# Altium schematic symbol library SCH - DRIVER - LED - TI TPS92692-Q1PWP.SchLib: 1 symbol
Pins are listed as number, name and electrical type; pins without a type are passive.

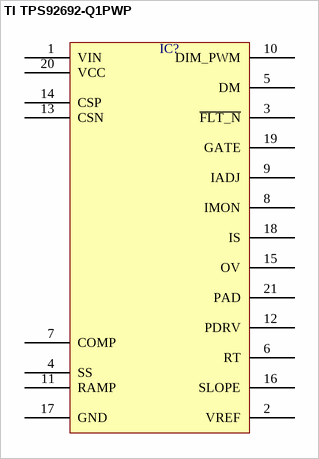
[diagram p0: symbol TI TPS92692-Q1PWP]

## TI TPS92692-Q1PWP
designator IC?  (value not drawn)
pins: 1 VIN, 2 VREF, 3 ~{FLT_N}, 4 SS, 5 DM, 6 RT, 7 COMP, 8 IMON, 9 IADJ, 10 DIM_PWM, 11 RAMP, 12 PDRV, 13 CSN, 14 CSP, 15 OV, 16 SLOPE, 17 GND, 18 IS, 19 GATE, 20 VCC, 21 PAD